# Altium footprint library SDR0403-2R2ML.PcbLib: 2 footprints
Each footprint in its own frame and in the unit in brackets; x right, y up, seen from the top. Pads: shape width x height; smd on the part's side, far side on the other; paste and mask are expansions set on the pad; w line width, h text height; cw(c..) or ccw(c..) is an arc to the next point about the centre after c.
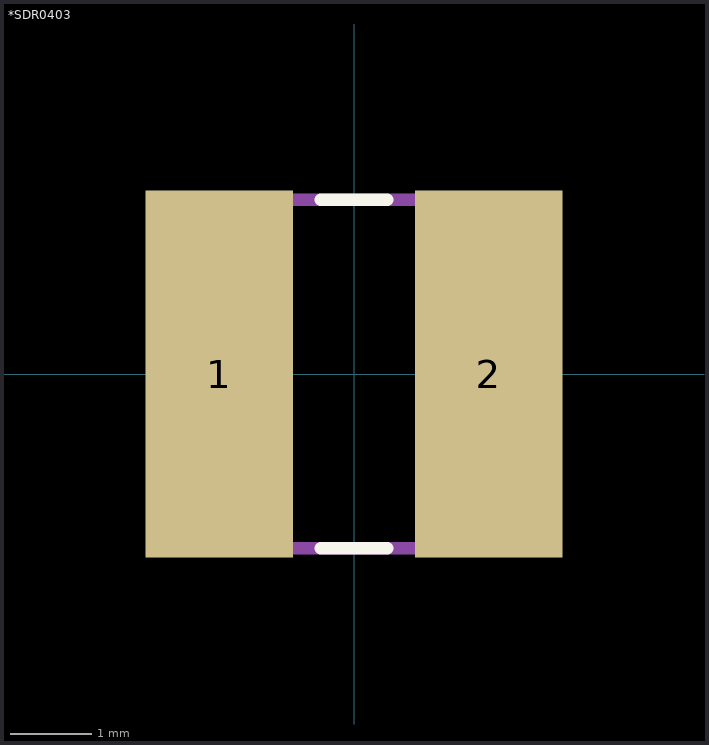
[diagram p0: the footprints below, top view; thin cyan lines are the x and y axes]

## *SDR0403 [mil]
pads (2):
  rect 71x177 smd: 1(-65,0) 2(65,0)
Top Overlay:
  lines w6: -16,-84 16,-84 ; -16,84 16,84
Mechanical 4:
  lines w6: -94,-84 -94,84 ; -94,-84 94,-84 ; -94,-84 -94,84 ; -94,-84 94,-84 ; -94,84 94,84 ; -94,84 94,84 ; 94,-84 94,84 ; 94,-84 94,84

## PCBComponent_1 [mil]